# EAGLE library part 613020143121 (library Wurth_Elektronik_Electromechanic_Board_to_Board_Connectors_rev16a)
WR-PHD 2.54mm Angled Socket Header, 20 Pins =>Code : Con_BTB_SHD_2.54_1_THT_613020143121 <http://katalog.we-online.de/media/images/eican/Con_BTB_SHD_2.54_1_THT_6130xx143121_pf2.jpg> Details see: http://katalog.we-online.de/en/em/613_0xx_143_121 Created 2014-05-29, Karrer Zheng 2014 (C) Würth Elektronik
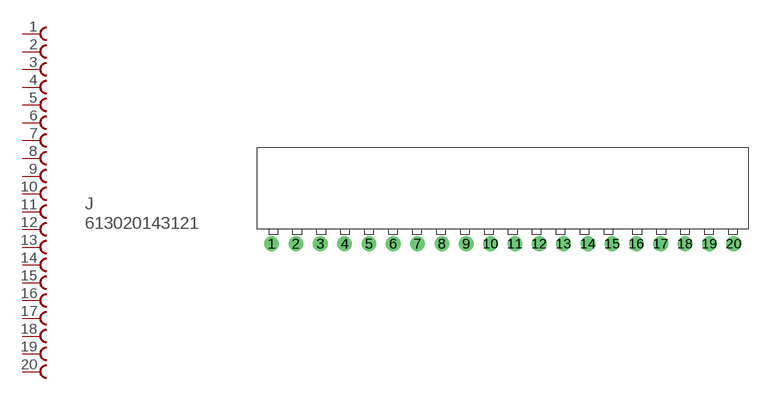
[diagram p141: symbol with the pads of 613020143121; footprint 613020143121]

Designator prefix J

## 613020143121  [613020143121]
1  1  pas
2  2  pas
3  3  pas
4  4  pas
5  5  pas
6  6  pas
7  7  pas
8  8  pas
9  9  pas
10  10  pas
11  11  pas
12  12  pas
13  13  pas
14  14  pas
15  15  pas
16  16  pas
17  17  pas
18  18  pas
19  19  pas
20  20  pas

## Footprint 613020143121 (pad centres in mm)
WR-PHD 2.54mm Angled Socket Header, 20 Pins
drill 1.02: 1 -43.18,0; 2 -40.64,0; 3 -38.1,0; 4 -35.56,0; 5 -33.02,0; 6 -30.48,0; 7 -27.94,0; 8 -25.4,0; 9 -22.86,0; 10 -20.32,0; 11 -17.78,0; 12 -15.24,0; 13 -12.7,0; 14 -10.16,0; 15 -7.62,0; 16 -5.08,0; 17 -2.54,0; 18 0,0; 19 2.54,0; 20 5.08,0